# Altium integrated library VoltageRegulator.IntLib: 5 symbols
Pins are listed as number, name and electrical type; pins without a type are passive.

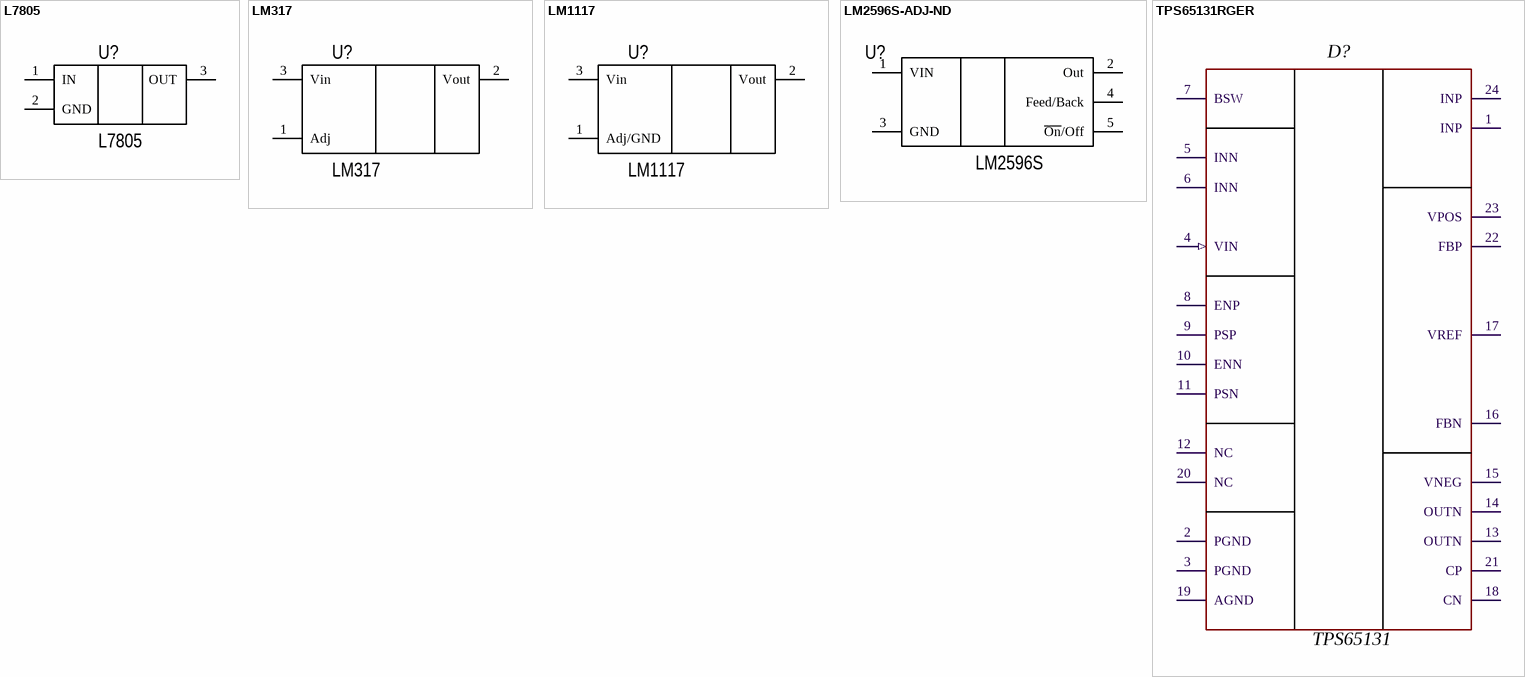
[diagram p0: symbols L7805 to TPS65131RGER]

## L7805
designator U?
L7805ACD2T-TR; Manufacture: STMicroelectronics; Name: Стабилизатор напряжения; Case: D2PAK; HelpURL: https://www.digikey.com/en/products/detail/stmicroelectronics/L7805ACD2T-TR/1038230?s=N4IgTCBcDaIDIHYAcAGArAQQMIBEwBUBafAJRAF0BfIA; Value: L7805; Model: L7805ACD2T-TR
footprint D2PAK
footprint DPAK
footprint TO-220FP
footprint TO-220-3
footprint D2PAK + FK244-13_D2PAK
pins: 1 IN, 2 GND, 3 OUT

## LM317
designator U?
L7805ACD2T-TR; Manufacture: Texas Instruments; Model: LM317EMP; Name: Стабилизатор напряжения; Case: =Footprint; HelpURL: https://www.digikey.com/en/products/detail/texas-instruments/LM317EMP/3701458; Value: LM317
footprint TO-220-3
footprint SOT-223-4
footprint TO-263-3
footprint TO-252
pins: 1 Adj, 2 Vout, 3 Vin

## LM1117
designator U?
L7805ACD2T-TR; Manufacture: Texas Instruments; Model: LM1117MPX-3.3; Name: Стабилизатор напряжения; Case: SOT-223-4; HelpURL: https://www.digikey.com/en/products/detail/texas-instruments/LM1117MPX-3-3/5055942; Value: LM1117
footprint TO-220-3
footprint SOT-223-4
footprint TO-263-3
footprint TO-252
pins: 1 Adj/GND, 2 Vout, 3 Vin

## LM2596S-ADJ-ND
designator U?, comment LM2596S
DC-DC; Manufacture: Texas Instruments; Model: LM2596S-ADJ; Name: Стабилизатор напряжения; Case: TO-263-6, D²Pak (5 Leads + Tab), TO-263BA; HelpURL: https://www.digikey.com/en/products/detail/texas-instruments/LM2596S-ADJ/3701227; Value: LM2596S
footprint TO-263-5
footprint TO-220-5
pins: 1 VIN, 2 Out, 3 GND, 4 Feed/Back, 5 ~{On}/Off

## TPS65131RGER
designator D?, comment TPS65131
DC-DC Step-Up; Manufacture: Texas Instruments; Model: TPS65131RGER; Name: Стабилизатор напряжения; HelpURL: https://www.digikey.com/product-detail/en/texas-instruments/TPS65131RGER/296-41760-2-ND/1672464; Case: 24-VQFN; Value: TPS65131
footprint 24-VQFN (4x4 mm)
pins: 1 INP "Вход", 2 PGND (power) "Вход", 3 PGND (power) "Вход", 4 VIN (in) "Вход", 5 INN "Вход", 6 INN "Вход", 7 BSW (power) "Вход", 8 ENP "Вход", 9 PSP "Вход", 10 ENN "Вход", 11 PSN "Вход", 12 NC "Вход", 13 OUTN "Вход", 14 OUTN "Вход", 15 VNEG "Вход", 16 FBN "Вход", 17 VREF "Вход", 18 CN "Вход", 19 AGND (power) "Вход", 20 NC "Вход", 21 CP "Вход", 22 FBP "Вход", 23 VPOS "Вход", 24 INP "Вход"